# EAGLE library part 15EDGRC-3.81-21P-14-00A (library Connectors)
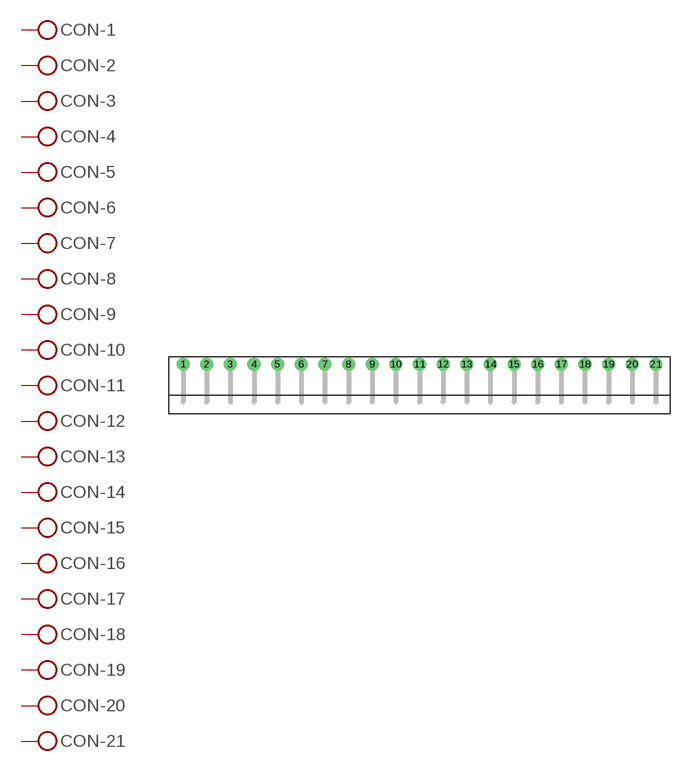
[diagram p15: symbol with the pads of 15EDGRC-3.81-21P-14-00A; footprint 15EDGRC-3.81-21P-14-00A]

Designator prefix CON; gates -1=KL -2=KL -3=KL -4=KL -5=KL -6=KL -7=KL -8=KL -9=KL -10=KL -11=KL -12=KL -13=KL -14=KL -15=KL -16=KL -17=KL -18=KL -19=KL -20=KL -21=KL

## 15EDGRC-3.81-21P-14-00A  [15EDGRC-3.81-21P-14-00A]
1  -1:KL  pas
2  -2:KL  pas
3  -3:KL  pas
4  -4:KL  pas
5  -5:KL  pas
6  -6:KL  pas
7  -7:KL  pas
8  -8:KL  pas
9  -9:KL  pas
10  -10:KL  pas
11  -11:KL  pas
12  -12:KL  pas
13  -13:KL  pas
14  -14:KL  pas
15  -15:KL  pas
16  -16:KL  pas
17  -17:KL  pas
18  -18:KL  pas
19  -19:KL  pas
20  -20:KL  pas
21  -21:KL  pas

## Footprint 15EDGRC-3.81-21P-14-00A (pad centres in mm)
drill 1.4: 1 0,0; 2 3.81,0; 3 7.62,0; 4 11.43,0; 5 15.24,0; 6 19.05,0; 7 22.86,0; 8 26.67,0; 9 30.48,0; 10 34.29,0; 11 38.1,0; 12 41.91,0; 13 45.72,0; 14 49.53,0; 15 53.34,0; 16 57.15,0; 17 60.96,0; 18 64.77,0; 19 68.58,0; 20 72.39,0; 21 76.2,0